# EAGLE library part TXB0104 (library KwanSystems)
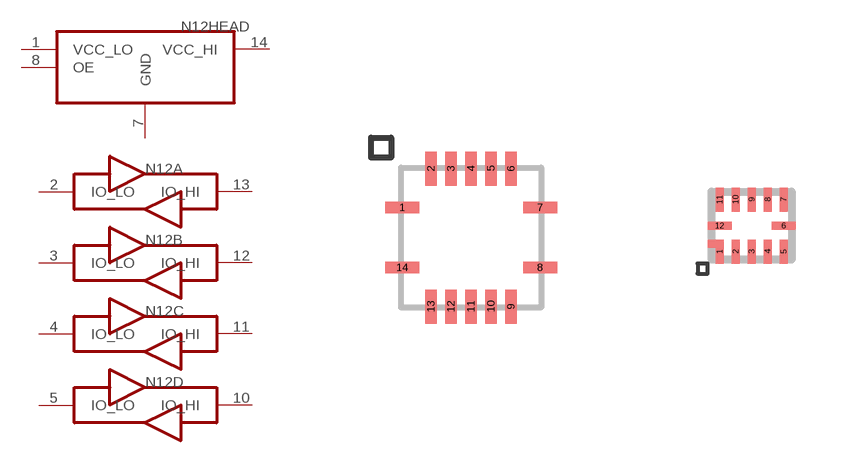
[diagram p38: symbol with the pads of S-PVQFN-N14; footprints S-PVQFN-N14, R-PUQFN-N12]

Designator prefix N12; gates A=BIDI_LEVEL_SHIFTER B=BIDI_LEVEL_SHIFTER C=BIDI_LEVEL_SHIFTER D=BIDI_LEVEL_SHIFTER HEAD=LEVEL_SHIFTER_HEADER

## TXB0104RGY  [S-PVQFN-N14]
1  HEAD:VCC_LO  pwr
2  A:IO_LO
3  B:IO_LO
4  C:IO_LO
5  D:IO_LO
7  HEAD:GND  pwr
8  HEAD:OE
10  D:IO_HI
11  C:IO_HI
12  B:IO_HI
13  A:IO_HI
14  HEAD:VCC_HI  pwr

## TXB0104RUT  [R-PUQFN-N12]
1  HEAD:VCC_LO  pwr
2  A:IO_LO
3  B:IO_LO
4  C:IO_LO
5  D:IO_LO
6  HEAD:GND  pwr
7  D:IO_HI
8  C:IO_HI
9  B:IO_HI
10  A:IO_HI
11  HEAD:VCC_HI  pwr
12  HEAD:OE

## Footprint S-PVQFN-N14 (pad centres in mm)
smd 0.85 x 0.28: 1 -1.725,0.75; 7 1.725,0.75; 8 1.725,-0.75; 14 -1.725,-0.75
smd 0.28 x 0.85: 2 -1,1.725; 3 -0.5,1.725; 4 0,1.725; 5 0.5,1.725; 6 1,1.725; 9 1,-1.725; 10 0.5,-1.725; 11 0,-1.725; 12 -0.5,-1.725; 13 -1,-1.725

## Footprint R-PUQFN-N12 (pad centres in mm)
smd 0.2 x 0.6: 1 -0.8,-0.65; 2 -0.4,-0.65; 3 0,-0.65; 4 0.4,-0.65; 5 0.8,-0.65; 7 0.8,0.65; 8 0.4,0.65; 9 0,0.65; 10 -0.4,0.65; 11 -0.8,0.65
smd 0.6 x 0.2: 6 0.8,0; 12 -0.8,0